# Altium footprint library Resistors SMD.PcbLib: 42 footprints (part 2 of 3)
Each footprint in its own frame and in the unit in brackets; x right, y up, seen from the top. Pads: shape width x height; smd on the part's side, far side on the other; paste and mask are expansions set on the pad; w line width, h text height; cw(c..) or ccw(c..) is an arc to the next point about the centre after c.
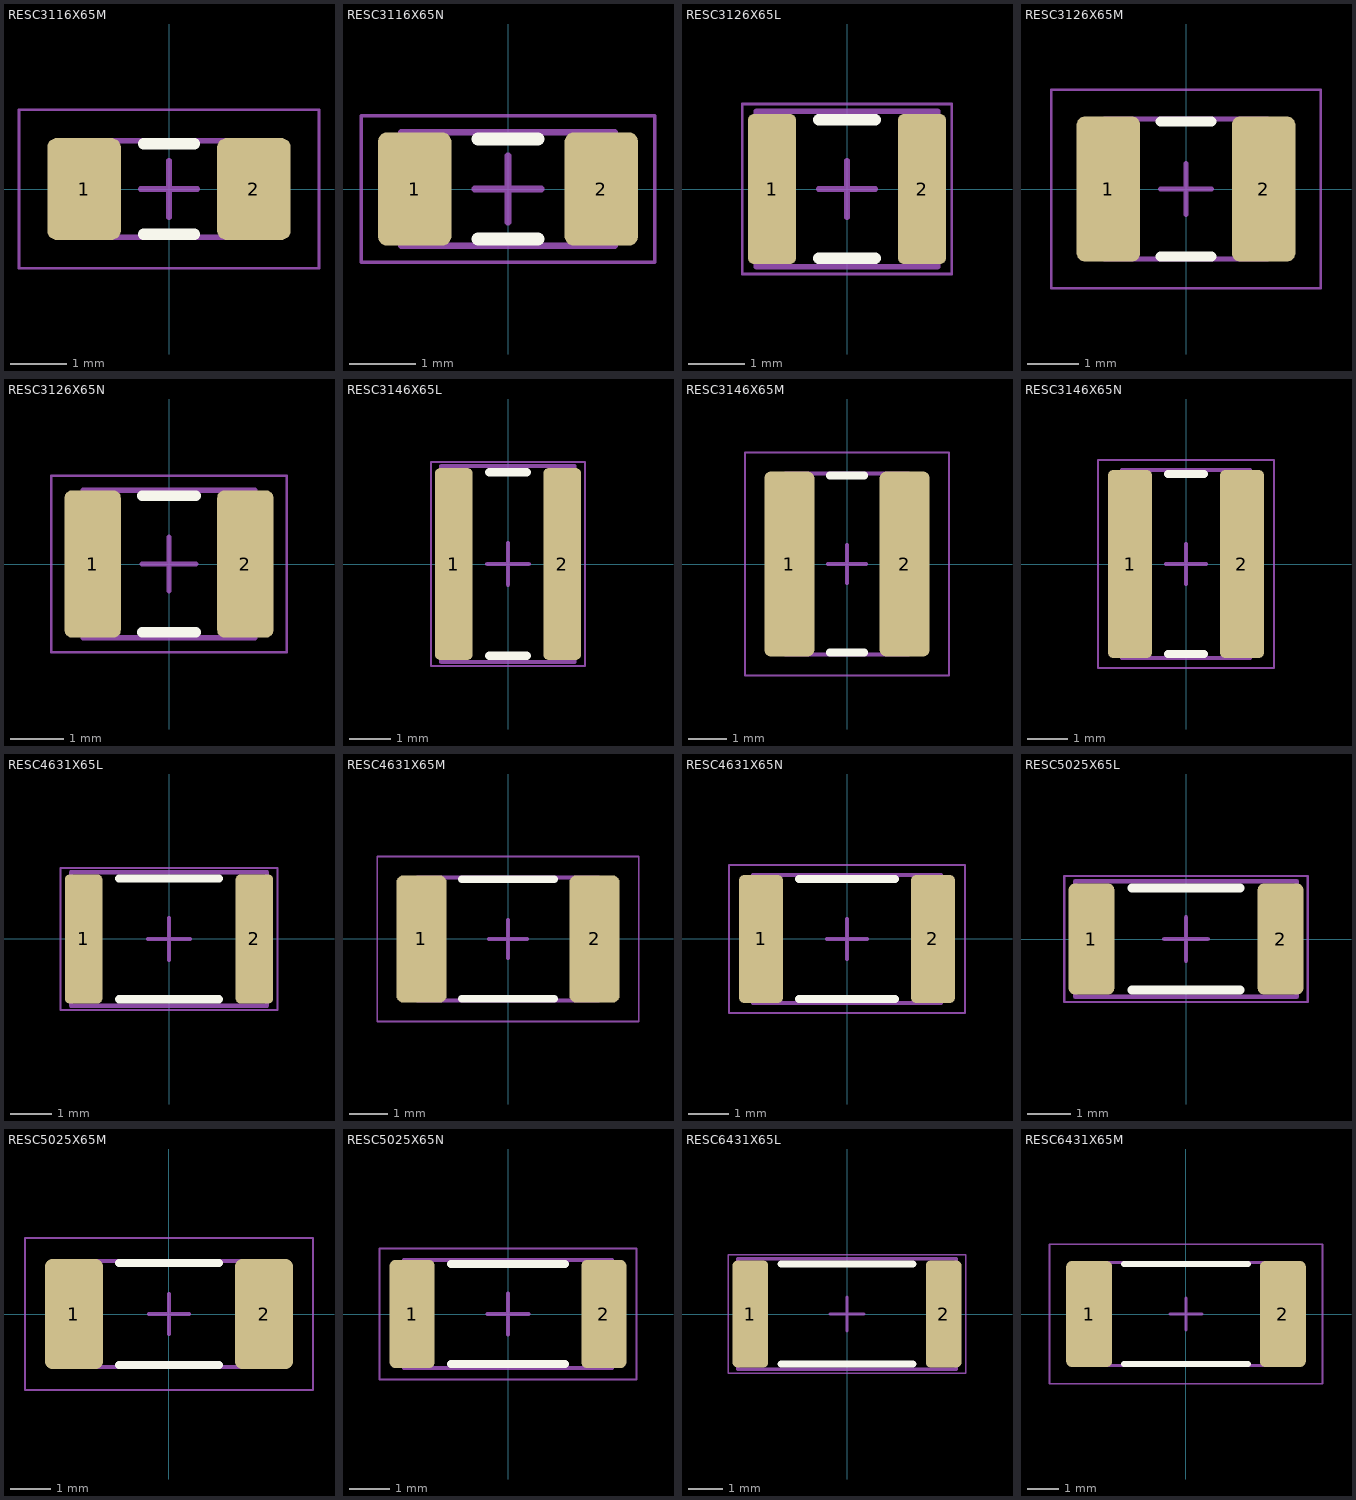
[diagram p1: the footprints below, top view; thin cyan lines are the x and y axes]

## RESC3116X65M [mm] "Chip Resistor, EIA 1206, Metric 3116, Body 3.10x1.60mm, IPC Low Density"
height 0.65
pads (2):
  rrect25% 1.3x1.8 smd paste+0 mask+0.05: 1(-1.5,0) 2(1.5,0)
Top Overlay:
  lines w0.2: -0.45,-0.8 0.45,-0.8 ; -0.45,0.8 0.45,0.8
Top Component Outline:
  lines w0.1: -1.6,-0.85 -1.6,0.85 1.6,0.85 1.6,-0.85 -1.6,-0.85
Top Courtyard:
  lines w0.05: -2.65,-1.4 -2.65,1.4 2.65,1.4 2.65,-1.4 -2.65,-1.4
Top Component Center:
  lines w0.1: -0.5,0 0.5,0 ; 0,-0.5 0,0.5
Top Designator:
  text ".Designator" at -4.04,-0.476 h2
Top Assembly:
  lines w0.1: -1.6,-0.85 -1.6,0.85 1.6,0.85 1.6,-0.85 -1.6,-0.85
  text ".Designator" at -4.04,-0.476 h2
3D body "RESC3116X65N.step": height 0.65, standoff 0, extent -1.6,-0.85 1.6,0.85

## RESC3116X65N [mm] "Chip Resistor, EIA 1206, Metric 3116, Body 3.10x1.60mm, IPC Medium Density"
height 0.65
pads (2):
  rrect25% 1.1x1.7 smd paste+0 mask+0.05: 1(-1.4,0) 2(1.4,0)
Top Overlay:
  lines w0.2: -0.45,-0.75 0.45,-0.75 ; -0.45,0.75 0.45,0.75
Top Component Outline:
  lines w0.1: -1.6,-0.85 -1.6,0.85 1.6,0.85 1.6,-0.85 -1.6,-0.85
Top Courtyard:
  lines w0.05: -2.2,-1.1 -2.2,1.1 2.2,1.1 2.2,-1.1 -2.2,-1.1
Top Component Center:
  lines w0.1: -0.5,0 0.5,0 ; 0,-0.5 0,0.5
Top Designator:
  text ".Designator" at -4.04,-0.476 h2
Top Assembly:
  lines w0.1: -1.6,-0.85 -1.6,0.85 1.6,0.85 1.6,-0.85 -1.6,-0.85
  text ".Designator" at -4.04,-0.476 h2
3D body "RESC3116X65N.step": height 0.65, standoff 0, extent -1.6,-0.85 1.6,0.85

## RESC3126X65L [mm] "Chip Resistor, EIA 1210, Metric 3126, Body 3.10x2.60mm, IPC High Density"
height 0.65
pads (2):
  rrect25% 0.85x2.65 smd paste+0 mask+0.05: 1(-1.325,0) 2(1.325,0)
Top Overlay:
  lines w0.2: -0.5,-1.225 0.5,-1.225 ; -0.5,1.225 0.5,1.225
Top Component Outline:
  lines w0.1: -1.6,-1.375 -1.6,1.375 1.6,1.375 1.6,-1.375 -1.6,-1.375
Top Courtyard:
  lines w0.05: -1.85,-1.5 1.85,-1.5 1.85,1.5 -1.85,1.5 -1.85,-1.5
Top Component Center:
  lines w0.1: -0.5,0 0.5,0 ; 0,-0.5 0,0.5
Top Designator:
  text ".Designator" at -4.04,-0.476 h2
Top Assembly:
  lines w0.1: -1.6,-1.375 1.6,-1.375 1.6,1.375 -1.6,1.375 -1.6,-1.375
  text ".Designator" at -4.04,-0.476 h2
3D body "RESC3126X65N.step": height 0.65, standoff 0, extent -1.6,-1.375 1.6,1.375

## RESC3126X65M [mm] "Chip Resistor, EIA 1210, Metric 3126, Body 3.10x2.60mm, IPC Low Density"
height 0.65
pads (2):
  rrect25% 1.25x2.85 smd paste+0 mask+0.05: 1(-1.525,0) 2(1.525,0)
Top Overlay:
  lines w0.2: -0.5,-1.325 0.5,-1.325 ; -0.5,1.325 0.5,1.325
Top Component Outline:
  lines w0.1: -1.6,-1.375 1.6,-1.375 1.6,1.375 -1.6,1.375 -1.6,-1.375
Top Courtyard:
  lines w0.05: -2.65,-1.95 -2.65,1.95 2.65,1.95 2.65,-1.95 -2.65,-1.95
Top Component Center:
  lines w0.1: -0.5,0 0.5,0 ; 0,-0.5 0,0.5
Top Designator:
  text ".Designator" at -4.04,-0.476 h2
Top Assembly:
  lines w0.1: -1.6,-1.375 -1.6,1.375 1.6,1.375 1.6,-1.375 -1.6,-1.375
  text ".Designator" at -4.04,-0.476 h2
3D body "RESC3126X65N.step": height 0.65, standoff 0, extent -1.6,-1.375 1.6,1.375

## RESC3126X65N [mm] "Chip Resistor, EIA 1210, Metric 3126,  Body 3.10x2.60mm, IPC Medium Density"
height 0.65
pads (2):
  rrect25% 1.05x2.75 smd paste+0 mask+0.05: 1(-1.425,0) 2(1.425,0)
Top Overlay:
  lines w0.2: -0.5,-1.275 0.5,-1.275 ; -0.5,1.275 0.5,1.275
Top Component Outline:
  lines w0.1: -1.6,-1.375 1.6,-1.375 1.6,1.375 -1.6,1.375 -1.6,-1.375
Top Courtyard:
  lines w0.05: -2.2,-1.65 2.2,-1.65 2.2,1.65 -2.2,1.65 -2.2,-1.65
Top Component Center:
  lines w0.1: -0.5,0 0.5,0 ; 0,-0.5 0,0.5
Top Designator:
  text ".Designator" at -4.04,-0.476 h2
Top Assembly:
  lines w0.1: -1.6,-1.375 1.6,-1.375 1.6,1.375 -1.6,1.375 -1.6,-1.375
  text ".Designator" at -4.04,-0.476 h2
3D body "RESC3126X65N.step": height 0.65, standoff 0, extent -1.6,-1.375 1.6,1.375

## RESC3146X65L [mm] "Chip Resistor, EIA 1218, Metric 3245, Body 3.10x4.60mm, IPC High Density"
height 0.65
pads (2):
  rrect25% 0.9x4.6 smd paste+0 mask+0.05: 1(-1.3,0) 2(1.3,0)
Top Overlay:
  lines w0.2: -0.45,-2.2 0.45,-2.2 ; -0.45,2.2 0.45,2.2
Top Component Outline:
  lines w0.1: -1.6,-2.35 1.6,-2.35 1.6,2.35 -1.6,2.35 -1.6,-2.35
Top Courtyard:
  lines w0.05: -1.85,-2.45 -1.85,2.45 1.85,2.45 1.85,-2.45 -1.85,-2.45
Top Component Center:
  lines w0.1: -0.5,0 0.5,0 ; 0,-0.5 0,0.5
Top Designator:
  text ".Designator" at -4.04,-0.476 h2
Top Assembly:
  lines w0.1: -1.6,-2.35 -1.6,2.35 1.6,2.35 1.6,-2.35 -1.6,-2.35
  text ".Designator" at -4.04,-0.476 h2
3D body "RESC3146X65N.step": height 0.65, standoff 0, extent -1.7,-2.35 1.5,2.35

## RESC3146X65M [mm] "Chip Resistor, EIA 1218, Metric 3245, Body 3.10x4.60mm, IPC Low Density"
height 0.65
pads (2):
  rrect25% 1.3x4.8 smd paste+0 mask+0.05: 1(-1.5,0) 2(1.5,0)
Top Overlay:
  lines w0.2: -0.45,-2.3 0.45,-2.3 ; -0.45,2.3 0.45,2.3
Top Component Outline:
  lines w0.1: -1.6,-2.35 1.6,-2.35 1.6,2.35 -1.6,2.35 -1.6,-2.35
Top Courtyard:
  lines w0.05: -2.65,-2.9 -2.65,2.9 2.65,2.9 2.65,-2.9 -2.65,-2.9
Top Component Center:
  lines w0.1: -0.5,0 0.5,0 ; 0,-0.5 0,0.5
Top Designator:
  text ".Designator" at -4.04,-0.476 h2
Top Assembly:
  lines w0.1: -1.6,-2.35 -1.6,2.35 1.6,2.35 1.6,-2.35 -1.6,-2.35
  text ".Designator" at -4.04,-0.476 h2
3D body "RESC3146X65N.step": height 0.65, standoff 0, extent -1.6,-2.35 1.6,2.35

## RESC3146X65N [mm] "Chip Resistor, EIA 1218, Metric 3245, Body 3.10x4.60mm, IPC Medium Density"
height 0.65
pads (2):
  rrect25% 1.1x4.7 smd paste+0 mask+0.05: 1(-1.4,0) 2(1.4,0)
Top Overlay:
  lines w0.2: -0.45,-2.25 0.45,-2.25 ; -0.45,2.25 0.45,2.25
Top Component Outline:
  lines w0.1: -1.6,-2.35 -1.6,2.35 1.6,2.35 1.6,-2.35 -1.6,-2.35
Top Courtyard:
  lines w0.05: -2.2,-2.6 2.2,-2.6 2.2,2.6 -2.2,2.6 -2.2,-2.6
Top Component Center:
  lines w0.1: -0.5,0 0.5,0 ; 0,-0.5 0,0.5
Top Designator:
  text ".Designator" at -4.04,-0.476 h2
Top Assembly:
  lines w0.1: -1.6,-2.35 1.6,-2.35 1.6,2.35 -1.6,2.35 -1.6,-2.35
  text ".Designator" at -4.04,-0.476 h2
3D body "RESC3146X65N.step": height 0.65, standoff 0, extent -1.6,-2.35 1.6,2.35

## RESC4631X65L [mm] "Chip Resistor, EIA 1812, Metric 4532, Body 4.60x3.10mm, IPC High Density"
height 0.65
pads (2):
  rrect25% 0.9x3.1 smd paste+0 mask+0.05: 1(-2.05,0) 2(2.05,0)
Top Overlay:
  lines w0.2: -1.2,-1.45 1.2,-1.45 ; -1.2,1.45 1.2,1.45
Top Component Outline:
  lines w0.1: -2.35,-1.6 -2.35,1.6 2.35,1.6 2.35,-1.6 -2.35,-1.6
Top Courtyard:
  lines w0.05: -2.6,-1.7 2.6,-1.7 2.6,1.7 -2.6,1.7 -2.6,-1.7
Top Component Center:
  lines w0.1: -0.5,0 0.5,0 ; 0,-0.5 0,0.5
Top Designator:
  text ".Designator" at -4.04,-0.476 h2
Top Assembly:
  lines w0.1: -2.35,-1.6 2.35,-1.6 2.35,1.6 -2.35,1.6 -2.35,-1.6
  text ".Designator" at -4.04,-0.476 h2
3D body "RESC4631X65N.step": height 0.65, standoff 0, extent -2.35,-1.6 2.35,1.6

## RESC4631X65M [mm] "Chip Resistor, EIA 1812, Metric 4532, Body 4.60x3.10mm, IPC Low Density"
height 0.65
pads (2):
  rrect25% 1.3x3.3 smd paste+0 mask+0.05: 1(-2.25,0) 2(2.25,0)
Top Overlay:
  lines w0.2: -1.2,-1.55 1.2,-1.55 ; -1.2,1.55 1.2,1.55
Top Component Outline:
  lines w0.1: -2.35,-1.6 -2.35,1.6 2.35,1.6 2.35,-1.6 -2.35,-1.6
Top Courtyard:
  lines w0.05: -3.4,-2.15 3.4,-2.15 3.4,2.15 -3.4,2.15 -3.4,-2.15
Top Component Center:
  lines w0.1: -0.5,0 0.5,0 ; 0,-0.5 0,0.5
Top Designator:
  text ".Designator" at -4.04,-0.476 h2
Top Assembly:
  lines w0.1: -2.35,-1.6 2.35,-1.6 2.35,1.6 -2.35,1.6 -2.35,-1.6
  text ".Designator" at -4.04,-0.476 h2
3D body "RESC4631X65N.step": height 0.65, standoff 0, extent -2.35,-1.6 2.35,1.6

## RESC4631X65N [mm] "Chip Resistor, EIA 1812, Metric 4532, Body 4.60x3.10mm, IPC Medium Density"
height 0.65
pads (2):
  rrect25% 1.1x3.2 smd paste+0 mask+0.05: 1(-2.15,0) 2(2.15,0)
Top Overlay:
  lines w0.2: -1.2,-1.5 1.2,-1.5 ; -1.2,1.5 1.2,1.5
Top Component Outline:
  lines w0.1: -2.35,-1.6 -2.35,1.6 2.35,1.6 2.35,-1.6 -2.35,-1.6
Top Courtyard:
  lines w0.05: -2.95,-1.85 -2.95,1.85 2.95,1.85 2.95,-1.85 -2.95,-1.85
Top Component Center:
  lines w0.1: -0.5,0 0.5,0 ; 0,-0.5 0,0.5
Top Designator:
  text ".Designator" at -4.04,-0.476 h2
Top Assembly:
  lines w0.1: -2.35,-1.6 -2.35,1.6 2.35,1.6 2.35,-1.6 -2.35,-1.6
  text ".Designator" at -4.04,-0.476 h2
3D body "RESC4631X65N.step": height 0.65, standoff 0, extent -2.35,-1.6 2.35,1.6

## RESC5025X65L [mm] "Chip Resistor, EIA 2010, Metric 5025, Body 5.00x2.50mm, IPC High Density"
height 0.65
pads (2):
  rrect25% 1.05x2.55 smd paste+0 mask+0.05: 1(-2.175,0) 2(2.175,0)
Top Overlay:
  lines w0.2: -1.25,-1.175 1.25,-1.175 ; -1.25,1.175 1.25,1.175
Top Component Outline:
  lines w0.1: -2.55,-1.325 2.55,-1.325 2.55,1.325 -2.55,1.325 -2.55,-1.325
Top Courtyard:
  lines w0.05: -2.8,-1.45 -2.8,1.45 2.8,1.45 2.8,-1.45 -2.8,-1.45
Top Component Center:
  lines w0.1: -0.5,0 0.5,0 ; 0,-0.5 0,0.5
Top Designator:
  text ".Designator" at -4.04,-0.476 h2
Top Assembly:
  lines w0.1: -2.55,-1.325 -2.55,1.325 2.55,1.325 2.55,-1.325 -2.55,-1.325
  text ".Designator" at -4.04,-0.476 h2
3D body "RESC5025X65N.step": height 0.65, standoff 0, extent -2.55,-1.325 2.55,1.325

## RESC5025X65M [mm] "Chip Resistor, EIA 2010, Metric 5025, Body 5.00x2.50mm, IPC Low Density"
height 0.65
pads (2):
  rrect25% 1.45x2.75 smd paste+0 mask+0.05: 1(-2.375,0) 2(2.375,0)
Top Overlay:
  lines w0.2: -1.25,-1.275 1.25,-1.275 ; -1.25,1.275 1.25,1.275
Top Component Outline:
  lines w0.1: -2.55,-1.325 -2.55,1.325 2.55,1.325 2.55,-1.325 -2.55,-1.325
Top Courtyard:
  lines w0.05: -3.6,-1.9 -3.6,1.9 3.6,1.9 3.6,-1.9 -3.6,-1.9
Top Component Center:
  lines w0.1: -0.5,0 0.5,0 ; 0,-0.5 0,0.5
Top Designator:
  text ".Designator" at -4.04,-0.476 h2
Top Assembly:
  lines w0.1: -2.55,-1.325 -2.55,1.325 2.55,1.325 2.55,-1.325 -2.55,-1.325
  text ".Designator" at -4.04,-0.476 h2
3D body "RESC5025X65N.step": height 0.65, standoff 0, extent -2.55,-1.325 2.55,1.325

## RESC5025X65N [mm] "Chip Resistor, EIA 2010, Metric 5025, Body 5.00x2.50mm, IPC Medium Density"
height 0.65
pads (2):
  rrect25% 1.1x2.65 smd paste+0 mask+0.05: 1(-2.35,0) 2(2.35,0)
Top Overlay:
  lines w0.2: -1.4,-1.225 1.4,-1.225 ; -1.4,1.225 1.4,1.225
Top Component Outline:
  lines w0.1: -2.55,-1.325 2.55,-1.325 2.55,1.325 -2.55,1.325 -2.55,-1.325
Top Courtyard:
  lines w0.05: -3.15,-1.6 3.15,-1.6 3.15,1.6 -3.15,1.6 -3.15,-1.6
Top Component Center:
  lines w0.1: -0.5,0 0.5,0 ; 0,-0.5 0,0.5
Top Designator:
  text ".Designator" at -4.04,-0.476 h2
Top Assembly:
  lines w0.1: -2.55,-1.325 2.55,-1.325 2.55,1.325 -2.55,1.325 -2.55,-1.325
  text ".Designator" at -4.04,-0.476 h2
3D body "RESC5025X65N.step": height 0.65, standoff 0, extent -2.55,-1.325 2.55,1.325

## RESC6431X65L [mm] "Chip Resistor, EIA 2512, Metric 6432, Body 6.35x3.10mm, IPC High Density"
height 0.65
pads (2):
  rrect25% 1.05x3.15 smd paste+0 mask+0.05: 1(-2.85,0) 2(2.85,0)
Top Overlay:
  lines w0.2: -1.95,-1.475 1.95,-1.475 ; -1.95,1.475 1.95,1.475
Top Component Outline:
  lines w0.1: -3.225,-1.625 3.225,-1.625 3.225,1.625 -3.225,1.625 -3.225,-1.625
Top Courtyard:
  lines w0.05: -3.5,-1.75 -3.5,1.75 3.5,1.75 3.5,-1.75 -3.5,-1.75
Top Component Center:
  lines w0.1: -0.5,0 0.5,0 ; 0,-0.5 0,0.5
Top Designator:
  text ".Designator" at -4.04,-0.476 h2
Top Assembly:
  lines w0.1: -3.225,-1.625 -3.225,1.625 3.225,1.625 3.225,-1.625 -3.225,-1.625
  text ".Designator" at -4.04,-0.476 h2
3D body "RESC6431X65N.step": height 0.65, standoff 0, extent -3.225,-1.625 3.225,1.625

## RESC6431X65M [mm] "Chip Resistor, EIA 2512, Metric 6432, Body 6.35x3.10mm, IPC Low Density"
height 0.65
pads (2):
  rrect25% 1.45x3.35 smd paste+0 mask+0.05: 1(-3.05,0) 2(3.05,0)
Top Overlay:
  lines w0.2: -1.95,-1.575 1.95,-1.575 ; -1.95,1.575 1.95,1.575
Top Component Outline:
  lines w0.1: -3.225,-1.625 -3.225,1.625 3.225,1.625 3.225,-1.625 -3.225,-1.625
Top Courtyard:
  lines w0.05: -4.3,-2.2 -4.3,2.2 4.3,2.2 4.3,-2.2 -4.3,-2.2
Top Component Center:
  lines w0.1: -0.5,0 0.5,0 ; 0,-0.5 0,0.5
Top Designator:
  text ".Designator" at -4.04,-0.476 h2
Top Assembly:
  lines w0.1: -3.225,-1.625 -3.225,1.625 3.225,1.625 3.225,-1.625 -3.225,-1.625
  text ".Designator" at -4.04,-0.476 h2
3D body "RESC6431X65N.step": height 0.65, standoff 0, extent -3.225,-1.625 3.225,1.625